# Altium footprint library PcbLib1.PcbLib: 28 footprints (part 1 of 2)
Each footprint in its own frame and in the unit in brackets; x right, y up, seen from the top. Pads: shape width x height; smd on the part's side, far side on the other; paste and mask are expansions set on the pad; w line width, h text height; cw(c..) or ccw(c..) is an arc to the next point about the centre after c.
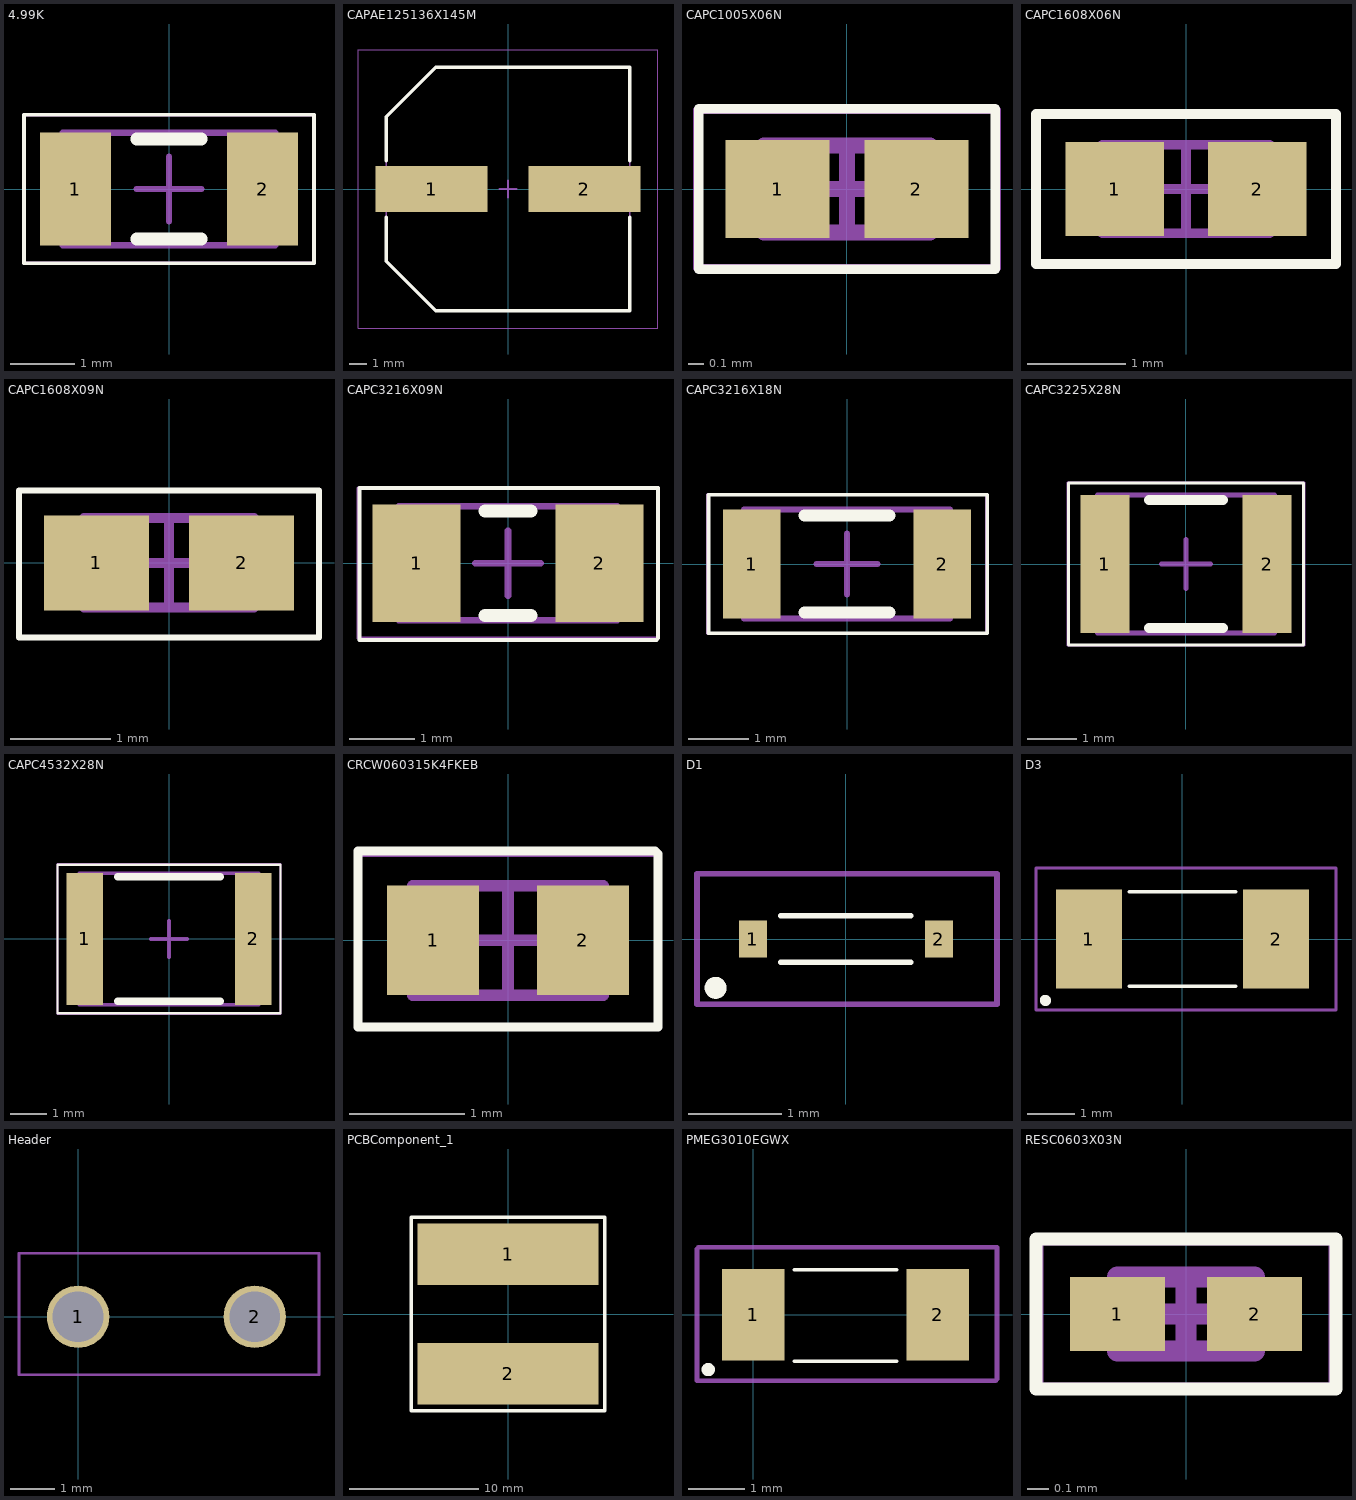
[diagram p0: the footprints below, top view; thin cyan lines are the x and y axes]

## 4.99K [mm] "Chip Resistor, 2-Leads, Body 3.15x1.60mm, IPC Medium Density"
height 0.6
pads (2):
  rect 1.1x1.75 smd: 1(-1.45,0) 2(1.45,0)
Top Overlay:
  lines w0.06: -2.25,-1.15 2.25,-1.15 2.25,1.15 -2.25,1.15 -2.25,-1.15
  lines w0.2: -0.5,-0.775 0.5,-0.775 ; -0.5,0.775 0.5,0.775
Mechanical 13:
  lines w0.1: -1.65,-0.875 -1.65,0.875 1.65,0.875 1.65,-0.875 -1.65,-0.875
Mechanical 15:
  lines w0.05: -2.25,-1.15 -2.25,1.15 2.25,1.15 2.25,-1.15 -2.25,-1.15
  lines w0.1: -0.5,0 0.5,0 ; 0,-0.5 0,0.5
3D body: height 0.6, standoff 0, extent -1.25,-0.875 1.25,0.875
3D body: height 0.6, standoff 0, extent -1.65,-0.875 -1.25,0.875
3D body: height 0.6, standoff 0, extent 1.25,-0.875 1.65,0.875

## CAPAE125136X145M [mm] "Aluminum Electrolytic Capacitor, Body 13.60x13.60x14.50mm, IPC Low Density"
height 14.5
pads (2):
  rect 6.35x2.6 smd: 1(-4.325,0) 2(4.325,0)
Top Overlay:
  lines w0.2: -6.9,-1.6 -6.9,-4.1 -4.1,-6.9 6.9,-6.9 6.9,-1.6 ; -6.9,1.6 -6.9,4.1 -4.1,6.9 6.9,6.9 6.9,1.6
Mechanical 13:
  lines w0.1: -6.9,-4.1 -4.1,-6.9 6.9,-6.9 6.9,6.9 -4.1,6.9 -6.9,4.1 -6.9,-4.1
Mechanical 15:
  lines w0.05: -8.5,-7.9 -8.5,7.9 8.5,7.9 8.5,-7.9 -8.5,-7.9
  lines w0.1: -0.5,0 0.5,0 ; 0,-0.5 0,0.5
3D body: height 4.84, standoff 0, extent -6.9,-6.9 6.9,6.9
3D body: height 14.5, standoff 0, extent -6.35,-6.35 6.35,6.35

## CAPC1005X06N [mm] "Chip Capacitor, 2-Leads, Body 1.00x0.50mm, IPC Medium Density"
height 0.55
pads (2):
  rect 0.66x0.62 smd: 1(-0.44,0) 2(0.44,0)
Top Overlay:
  lines w0.06: -0.94,-0.508 -0.94,0.508 0.94,0.508 0.94,-0.508 -0.94,-0.508
Mechanical 13:
  lines w0.1: -0.525,-0.275 -0.525,0.275 0.525,0.275 0.525,-0.275 -0.525,-0.275
Mechanical 15:
  lines w0.05: -0.95,-0.5 -0.95,0.5 0.95,0.5 0.95,-0.5 -0.95,-0.5
  lines w0.1: -0.275,0 0.275,0 ; 0,-0.275 0,0.275
3D body: height 0.55, standoff 0, extent -0.275,-0.275 0.275,0.275
3D body: height 0.55, standoff 0, extent -0.525,-0.275 -0.275,0.275
3D body: height 0.55, standoff 0, extent 0.275,-0.275 0.525,0.275

## CAPC1608X06N [mm] "Chip Capacitor, 2-Leads, Body 1.60x0.80mm, IPC Medium Density"
height 0.6
pads (2):
  rect 1x0.95 smd: 1(-0.725,0) 2(0.725,0)
Top Overlay:
  lines w0.1: -1.524,-0.762 1.524,-0.762 1.524,0.762 -1.524,0.762 -1.524,-0.762
Mechanical 13:
  lines w0.1: -0.85,-0.45 0.85,-0.45 0.85,0.45 -0.85,0.45 -0.85,-0.45
Mechanical 15:
  lines w0.05: -1.5,-0.75 1.5,-0.75 1.5,0.75 -1.5,0.75 -1.5,-0.75
  lines w0.1: -0.45,0 0.45,0 ; 0,-0.45 0,0.45
3D body: height 0.6, standoff 0, extent 0.4,-0.45 0.85,0.45
3D body: height 0.6, standoff 0, extent -0.85,-0.45 -0.4,0.45
3D body: height 0.6, standoff 0, extent -0.4,-0.45 0.4,0.45

## CAPC1608X09N [mm] "0.33uF"
height 0.87
pads (2):
  rect 1.05x0.95 smd: 1(-0.725,0) 2(0.725,0)
Top Overlay:
  lines w0.06: -1.5,-0.75 -1.5,0.725 1.5,0.725 1.5,-0.75 -1.5,-0.75
Mechanical 13:
  lines w0.1: -0.85,-0.45 -0.85,0.45 0.85,0.45 0.85,-0.45 -0.85,-0.45
Mechanical 15:
  lines w0.05: -1.5,-0.75 -1.5,0.725 1.5,0.725 1.5,-0.75 -1.5,-0.75
  lines w0.1: -0.45,0 0.45,0 ; 0,-0.45 0,0.45
3D body: height 0.87, standoff 0, extent -0.45,-0.45 0.45,0.45
3D body: height 0.87, standoff 0, extent -0.85,-0.45 -0.45,0.45
3D body: height 0.87, standoff 0, extent 0.45,-0.45 0.85,0.45

## CAPC3216X09N [mm] "10pF"
height 0.9
pads (2):
  rect 1.35x1.8 smd: 1(-1.4,0) 2(1.4,0)
Top Overlay:
  lines w0.06: -2.275,-1.175 -2.275,1.15 2.3,1.15 2.3,-1.15 2.275,-1.175 -2.275,-1.175
  lines w0.2: -0.35,-0.8 0.35,-0.8 ; -0.35,0.8 0.35,0.8
Mechanical 13:
  lines w0.1: -1.675,-0.875 -1.675,0.875 1.675,0.875 1.675,-0.875 -1.675,-0.875
Mechanical 15:
  lines w0.05: -2.3,-1.15 -2.3,1.15 2.3,1.15 2.3,-1.15 -2.3,-1.15
  lines w0.1: -0.5,0 0.5,0 ; 0,-0.5 0,0.5
3D body: height 0.9, standoff 0, extent -1.075,-0.875 1.075,0.875
3D body: height 0.9, standoff 0, extent -1.675,-0.875 -1.075,0.875
3D body: height 0.9, standoff 0, extent 1.075,-0.875 1.675,0.875

## CAPC3216X18N [mm] "Chip Capacitor, 2-Leads, Body 3.20x1.60mm, IPC Medium Density"
height 1.8
pads (2):
  rect 0.95x1.8 smd: 1(-1.575,0) 2(1.575,0)
Top Overlay:
  lines w0.06: -2.286,-1.143 -2.286,1.143 2.311,1.143 2.311,-1.143 -2.286,-1.143
  lines w0.2: -0.7,-0.8 0.7,-0.8 ; -0.7,0.8 0.7,0.8
Mechanical 13:
  lines w0.1: -1.7,-0.9 -1.7,0.9 1.7,0.9 1.7,-0.9 -1.7,-0.9
Mechanical 15:
  lines w0.05: -2.3,-1.15 -2.3,1.15 2.3,1.15 2.3,-1.15 -2.3,-1.15
  lines w0.1: -0.5,0 0.5,0 ; 0,-0.5 0,0.5
3D body: height 1.8, standoff 0, extent -1.4,-0.9 1.4,0.9
3D body: height 1.8, standoff 0, extent -1.7,-0.9 -1.4,0.9
3D body: height 1.8, standoff 0, extent 1.4,-0.9 1.7,0.9

## CAPC3225X28N [mm] "Chip Capacitor, 2-Leads, Body 3.20x2.50mm, IPC Medium Density"
height 2.8
pads (2):
  rect 1x2.8 smd: 1(-1.65,0) 2(1.65,0)
Top Overlay:
  lines w0.06: -2.388,-1.651 -2.388,1.651 2.388,1.651 2.388,-1.651 -2.388,-1.651
  lines w0.2: -0.75,-1.3 0.75,-1.3 ; -0.75,1.3 0.75,1.3
Mechanical 13:
  lines w0.1: -1.8,-1.4 -1.8,1.4 1.8,1.4 1.8,-1.4 -1.8,-1.4
Mechanical 15:
  lines w0.05: -2.4,-1.65 -2.4,1.65 2.4,1.65 2.4,-1.65 -2.4,-1.65
  lines w0.1: -0.5,0 0.5,0 ; 0,-0.5 0,0.5
3D body: height 2.8, standoff 0, extent -1.57,-1.4 1.57,1.4
3D body: height 2.8, standoff 0, extent -1.8,-1.4 -1.57,1.4
3D body: height 2.8, standoff 0, extent 1.57,-1.4 1.8,1.4

## CAPC4532X28N [mm] "Chip Capacitor, 2-Leads, Body 4.50x3.20mm, IPC Medium Density"
height 2.8
pads (2):
  rect 1x3.6 smd: 1(-2.3,0) 2(2.3,0)
Top Overlay:
  lines w0.06: -3.048,-2.032 3.048,-2.032 3.048,2.032 -3.048,2.032 -3.048,-2.032
  lines w0.2: -1.4,-1.7 1.4,-1.7 ; -1.4,1.7 1.4,1.7
Mechanical 13:
  lines w0.1: -2.45,-1.8 2.45,-1.8 2.45,1.8 -2.45,1.8 -2.45,-1.8
Mechanical 15:
  lines w0.05: -3.05,-2.05 3.05,-2.05 3.05,2.05 -3.05,2.05 -3.05,-2.05
  lines w0.1: -0.5,0 0.5,0 ; 0,-0.5 0,0.5
3D body: height 2.8, standoff 0, extent 2.22,-1.8 2.45,1.8
3D body: height 2.8, standoff 0, extent -2.45,-1.8 -2.22,1.8
3D body: height 2.8, standoff 0, extent -2.22,-1.8 2.22,1.8

## CRCW060315K4FKEB [mm] "Chip Resistor, 2-Leads, Body 1.58x0.85mm, IPC Medium Density"
height 0.5
pads (2):
  rect 0.8x0.95 smd: 1(-0.65,0) 2(0.65,0)
Top Overlay:
  lines w0.076: -1.3,-0.75 1.3,-0.75 1.3,0.75 1.275,0.775 -1.3,0.775 -1.3,-0.75
Mechanical 13:
  lines w0.1: -0.825,-0.475 0.825,-0.475 0.825,0.475 -0.825,0.475 -0.825,-0.475
Mechanical 15:
  lines w0.05: -1.3,-0.75 1.3,-0.75 1.3,0.75 -1.3,0.75 -1.3,-0.75
  lines w0.1: -0.475,0 0.475,0 ; 0,-0.475 0,0.475
3D body: height 0.5, standoff 0, extent 0.525,-0.475 0.825,0.475
3D body: height 0.5, standoff 0, extent -0.825,-0.475 -0.525,0.475
3D body: height 0.5, standoff 0, extent -0.525,-0.475 0.525,0.475

## D1 [mm]
pads (2):
  rect 0.3x0.4 smd: 1(-1,0) 2(1,0)
Top Overlay:
  circle w0.155: c-1.4,-0.525 r0.04
  lines w0.06: -0.7,-0.25 0.7,-0.25 ; -0.7,0.25 0.7,0.25
Mechanical 15:
  lines w0.06: -1.6,-0.7 -1.6,0.55 -1.6,0.7 -1.45,0.7 1.625,0.7 1.625,-0.7 -1.6,-0.7

## D3 [mm]
pads (2):
  rect 1.4x2.1 smd: 1(-1.98,0) 2(1.98,0)
Top Overlay:
  circle w0.155: c-2.9,-1.3 r0.04
  lines w0.076: -1.13,-1 1.13,-1 ; -1.13,1 1.13,1
Mechanical 15:
  lines w0.06: -3.1,-1.5 -3.1,1.5 3.25,1.5 3.25,-1.5 -3.1,-1.5

## Header [mm]
pads (2):
  round 1.4 hole 1.14: 1(0,0) 2(3.96,0)
Mechanical 15:
  lines w0.06: -1.325,-1.3 -1.325,1.425 5.4,1.425 5.4,-1.3 -1.325,-1.3

## PCBComponent_1 [mm]
pads (2):
  rect 14x4.75 smd: 1(0,4.625) 2(0,-4.625)
Top Overlay:
  lines w0.254: -7.5,-7.5 -7.5,7.5 7.5,7.5 7.5,-7.5 -7.5,-7.5

## PMEG3010EGWX [mm]
pads (2):
  rect 1.11x1.62 smd: 1(0,0) 2(3.27,0)
Top Overlay:
  circle w0.155: c-0.8,-0.975 r0.04
  lines w0.06: 0.725,-0.825 2.55,-0.825 ; 0.725,0.8 2.55,0.8
Mechanical 15:
  lines w0.08: -1,1.175 -1,-1.175 4.3,-1.175 4.325,-1.15 4.325,1.2 -0.975,1.2

## RESC0603X03N [mm] "Chip Resistor, 2-Leads, Body 0.60x0.30mm, IPC Medium Density"
height 0.26
pads (2):
  rect 0.45x0.35 smd: 1(-0.325,0) 2(0.325,0)
Top Overlay:
  lines w0.06: -0.711,-0.356 -0.711,0.356 0.711,0.356 0.711,-0.356 -0.711,-0.356
Mechanical 13:
  lines w0.1: -0.325,-0.175 0.325,-0.175 0.325,0.175 -0.325,0.175 -0.325,-0.175
Mechanical 15:
  lines w0.05: -0.7,-0.35 0.7,-0.35 0.7,0.35 -0.7,0.35 -0.7,-0.35
  lines w0.1: -0.175,0 0.175,0 ; 0,-0.175 0,0.175
3D body: height 0.26, standoff 0, extent 0.205,-0.175 0.325,0.175
3D body: height 0.26, standoff 0, extent -0.325,-0.175 -0.205,0.175
3D body: height 0.26, standoff 0, extent -0.205,-0.175 0.205,0.175